# EAGLE library part TPA6211A1 (library Oles komponentbibliotek)
3.1 Watt mono, full differential audio amplifier, VDD=2.5V .. 6V.
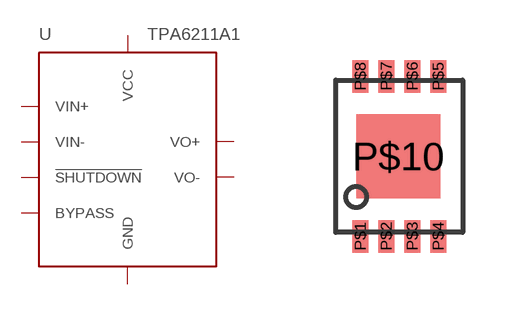
[diagram p40: symbol with the pads of MSOP-8-SINK; footprint MSOP-8-SINK]

Designator prefix -

## TPA6211A1  [MSOP-8-SINK]
P$1  !SHUTDOWN  in
P$2  BYPASS  pas
P$3  VIN-  in
P$4  VIN+  in
P$5  VO+  out
P$6  VCC  pwr
P$7  GND  pwr
P$8  VO-  out

## Footprint MSOP-8-SINK (pad centres in mm)
smd 0.406 x 0.813: P$1 -0.65,-2; P$2 0,-2; P$3 0.65,-2; P$4 1.3,-2; P$5 1.3,2; P$6 0.65,2; P$7 0,2; P$8 -0.65,2
smd 2.1 x 2.1: P$10 0.3,0